# EAGLE library part SAMTEC_BKS_119_1 (library user)
Socket connector
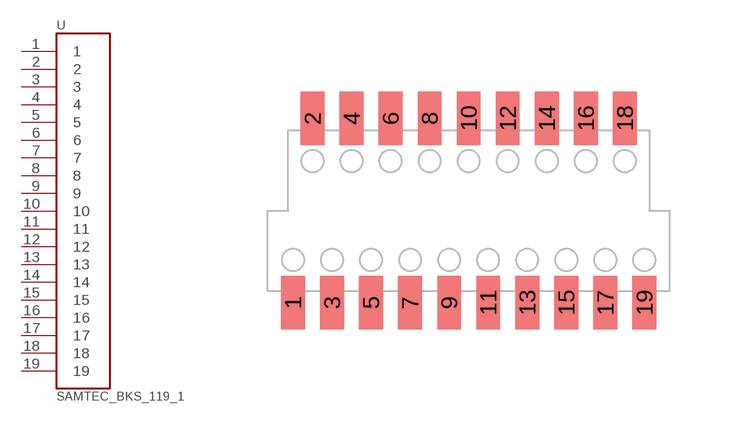
[diagram p4: symbol with the pads of SAMTEC_BKS_19P; footprint SAMTEC_BKS_19P]

Designator prefix -

## SAMTEC_BKS_119_1  [SAMTEC_BKS_19P]
1  1  pas
2  2  pas
3  3  pas
4  4  pas
5  5  pas
6  6  pas
7  7  pas
8  8  pas
9  9  pas
10  10  pas
11  11  pas
12  12  pas
13  13  pas
14  14  pas
15  15  pas
16  16  pas
17  17  pas
18  18  pas
19  19  pas

## Footprint SAMTEC_BKS_19P (pad centres in mm)
smd 0.61 x 1.375: 1 0,-1.093; 2 0.5,3.632; 3 1,-1.093; 4 1.5,3.632; 5 2,-1.093; 6 2.5,3.632; 7 3,-1.093; 8 3.5,3.632; 9 4,-1.093; 10 4.5,3.632; 11 5,-1.093; 12 5.5,3.632; 13 6,-1.093; 14 6.5,3.632; 15 7,-1.093; 16 7.5,3.632; 17 8,-1.093; 18 8.5,3.632; 19 9,-1.093